# EAGLE library part 15X2 (library Boards)
15x2 pin board
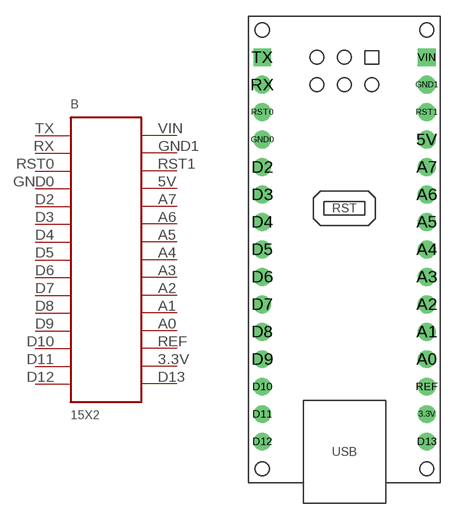
[diagram p2: symbol with the pads of ARDUINO_NANO; footprint ARDUINO_NANO]

Designator prefix B

## 15X2ARDUINO_NANO_V3  [ARDUINO_NANO]
3.3V  P$17
5V  P$27
A0  P$19
A1  P$20
A2  P$21
A3  P$22
A4  P$23
A5  P$24
A6  P$25
A7  P$26
D2  P$5
D3  P$6
D4  P$7
D5  P$8
D6  P$9
D7  P$10
D8  P$11
D9  P$12
D10  P$13
D11  P$14
D12  P$15
D13  P$16
GND0  P$4
GND1  P$29
REF  P$18
RST0  P$3
RST1  P$28
RX  P$2
TX  P$1
VIN  P$30

## Footprint ARDUINO_NANO (pad centres in mm)
drill 1.1: 3.3V 7.62,-15.24; 5V 7.62,10.16; A0 7.62,-10.16; A1 7.62,-7.62; A2 7.62,-5.08; A3 7.62,-2.54; A4 7.62,0; A5 7.62,2.54; A6 7.62,5.08; A7 7.62,7.62; D2 -7.62,7.62; D3 -7.62,5.08; D4 -7.62,2.54; D5 -7.62,0; D6 -7.62,-2.54; D7 -7.62,-5.08; D8 -7.62,-7.62; D9 -7.62,-10.16; D10 -7.62,-12.7; D11 -7.62,-15.24; D12 -7.62,-17.78; D13 7.62,-17.78; GND0 -7.62,10.16; GND1 7.62,15.24; REF 7.62,-12.7; RST0 -7.62,12.7; RST1 7.62,12.7; RX -7.62,15.24
drill 1.1 square: TX -7.62,17.78; VIN 7.62,17.78